# EAGLE library part AD723 (library m-pad)
Analog Devices AD723 2.7 V to 5.5 V RGB-to-NTSC/PAL Encoder with Load Detect and Input Termination Switch Description: The AD723 is a low cost RGB-to-NTSC/PAL encoder that converts analog red, green, and blue color component signals into their corresponding luminance and chrominance signals for display on an NTSC or PAL television. Luminance (Y) and Chrominance (C) signals are available individually for S-video, or combined for composite video (CV). All outputs are available separately and optimized for driving 75 Ohm loads. Active termination is used for lower power consumption. A smart load detect feature powers down unused outputs and can be used to monitor the continuing presence or absence of an external TV. This enables plug-and-play operation. In addition, a logic controlled triple switch at the input solves the applications problem of differing load conditions when an RGB monitor is disconnected. When an RGB monitor is not present, the R, G, and B terminations are enabled by the user. This solution ensures no loss of video bandwidth when the RGB monitor is in operation. In PC applications, flicker filter support is provided by the graphics controller, which has direct access to memory. Underscan compensation, necessary for uses other than video or DVD, is supported through choice of RGB output clocks and sync intervals. An optional luminance trap (YTRAP) provides a means of reducing cross color artifacts due to subcarrier frequency information in the Y signal. The AD723 is available in a 28-lead TSSOP package and is capable of operation from supplies of 2.7 V to 5.5 V. Features: Low Cost, Fully Integrated Solution for NTSC/PAL Composite and Y/C (S-Video) Outputs Current Output Drives 75 Loads DC-Coupled: Supports TV Load Detect No Large AC-Coupling Capacitors at Output Self-Power-Down of Unloaded Output Drivers Triple Switch to Enable RGB Termination Integrated Delay Line and Auto-Tuned Filters Y-Trap to Eliminate Cross Color Artifacts 3 V Supply Operation: Low Power Less then 100 mW: Composite Active (Typical) Less then 150 mW: S-Video Active (Typical) Less then 1uA: Power-Down Current Applications: TV Out for Personal Computers/Laptops Digital Cameras Set-Top Boxes Video Games Internet Appliances Please send any comments to: messi@users.sourceforge.net
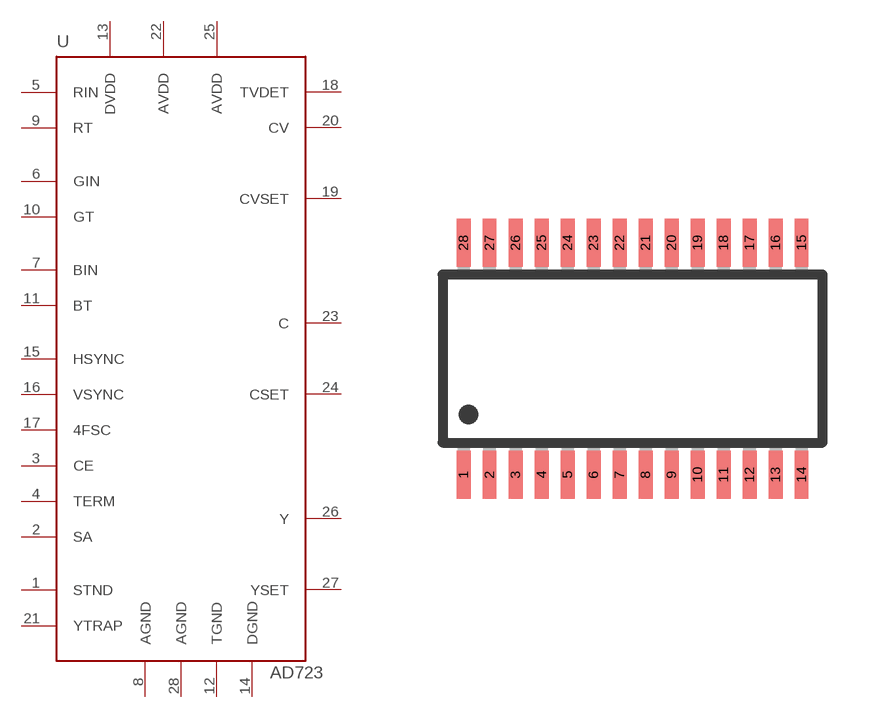
[diagram p96: symbol with the pads of TSSOP28; footprint TSSOP28]

Designator prefix U

## AD723  [TSSOP28]
1  STND  in
2  SA  in
3  CE  in
4  TERM  in
5  RIN  in
6  GIN  in
7  BIN  in
8  AGND  pwr
9  RT  in
10  GT  in
11  BT  in
12  TGND  pwr
13  DVDD  pwr
14  DGND  pwr
15  HSYNC  in
16  VSYNC  in
17  4FSC  in
18  TVDET  out
19  CVSET  out
20  CV  out
21  YTRAP  out
22  AVDD  pwr
23  C  out
24  CSET  out
25  AVDD  pwr
26  Y  out
27  YSET  out
28  AGND  pwr

## Footprint TSSOP28 (pad centres in mm)
28-Lead TSSOP Package RU-28
smd 0.35 x 1.2: 1 -4.225,-2.9; 2 -3.575,-2.9; 3 -2.925,-2.9; 4 -2.275,-2.9; 5 -1.625,-2.9; 6 -0.975,-2.9; 7 -0.325,-2.9; 8 0.325,-2.9; 9 0.975,-2.9; 10 1.625,-2.9; 11 2.275,-2.9; 12 2.925,-2.9; 13 3.575,-2.9; 14 4.225,-2.9; 15 4.225,2.9; 16 3.575,2.9; 17 2.925,2.9; 18 2.275,2.9; 19 1.625,2.9; 20 0.975,2.9; 21 0.325,2.9; 22 -0.325,2.9; 23 -0.975,2.9; 24 -1.625,2.9; 25 -2.275,2.9; 26 -2.925,2.9; 27 -3.575,2.9; 28 -4.225,2.9